# Altium footprint library SPMWH1228MD5WAQUVK.PcbLib: 3 footprints
Each footprint in its own frame and in the unit in brackets; x right, y up, seen from the top. Pads: shape width x height; smd on the part's side, far side on the other; paste and mask are expansions set on the pad; w line width, h text height; cw(c..) or ccw(c..) is an arc to the next point about the centre after c.
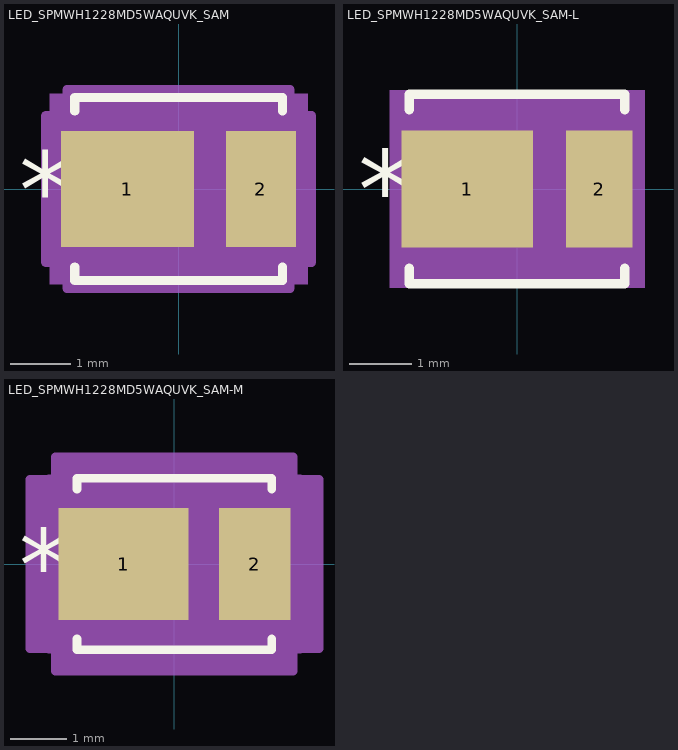
[diagram p0: the footprints below, top view; thin cyan lines are the x and y axes]

## LED_SPMWH1228MD5WAQUVK_SAM [mil]
pads (2):
  rect 87x76 smd paste+0 mask+0: 1(-33.5,0)
  rect 46x76 smd paste+0 mask+0: 2(54,0)
Top Overlay:
  lines w6: -68,-51.1 -68,-60 68,-60 68,-51.1 ; -68,51.1 -68,60 68,60 68,51.1
  text "*" at -104.5,-25 h50
Mechanical 5:
  region: 84.5,-62.5 -84.5,-62.5 -84.5,62.5 84.5,62.5
Mechanical 13:
  lines w1: -63,-27.5 -35.5,-55 ; -63,27.5 -35.5,55 ; -69,-38 -69,38 -63,38 -63,-38 -69,-38 ; -63,-55 63,-55 63,55 -63,55 -63,-55 ; 63,-38 63,38 69,38 69,-38 63,-38
  text "*" at -65.5,-25 h50
Mechanical 15:
  region: -73,-48 -87,-48 -87,48 -73,48 -73,65 73,65 73,48 87,48 87,-48 73,-48 73,-65 -73,-65
  lines w6: -87,-48 -87,48 -73,48 -73,65 73,65 73,48 87,48 87,-48 73,-48 73,-65 -73,-65 -73,-48 -87,-48
3D body "LED_SPMWH1228MD5WAQUVK_SAM.step": height 28.11, standoff 0, extent -69.02,-55 69.02,55

## LED_SPMWH1228MD5WAQUVK_SAM-L [mil]
pads (2):
  rect 83x74 smd paste+0 mask+0: 1(-31.5,0)
  rect 42x74 smd paste+0 mask+0: 2(52,0)
Top Overlay:
  lines w6: -68,-50.1 -68,-60 68,-60 68,-50.1 ; -68,50.1 -68,60 68,60 68,50.1
  text "*" at -100.5,-25 h50
Mechanical 5:
  region: 80.5,-62.5 -80.5,-62.5 -80.5,62.5 80.5,62.5
Mechanical 13:
  lines w1: -63,-27.5 -35.5,-55 ; -63,27.5 -35.5,55 ; -69,-38 -69,38 -63,38 -63,-38 -69,-38 ; -63,-55 63,-55 63,55 -63,55 -63,-55 ; 63,-38 63,38 69,38 69,-38 63,-38
  text "*" at -65.5,-25 h50
Mechanical 15:
  region: -67,-41 -77,-41 -77,41 -67,41 -67,59 67,59 67,41 77,41 77,-41 67,-41 67,-59 -67,-59
  lines w6: -77,-41 -77,41 -67,41 -67,59 67,59 67,41 77,41 77,-41 67,-41 67,-59 -67,-59 -67,-41 -77,-41
3D body "LED_SPMWH1228MD5WAQUVK_SAM.step": height 28.11, standoff 0, extent -69.02,-55 69.02,55

## LED_SPMWH1228MD5WAQUVK_SAM-M [mil]
pads (2):
  rect 91x78 smd paste+0 mask+0: 1(-35.5,0)
  rect 50x78 smd paste+0 mask+0: 2(56,0)
Top Overlay:
  lines w6: -68,-52.1 -68,-60 68,-60 68,-52.1 ; -68,52.1 -68,60 68,60 68,52.1
  text "*" at -108.5,-25 h50
Mechanical 5:
  region: 88.5,-62.5 -88.5,-62.5 -88.5,62.5 88.5,62.5
Mechanical 13:
  lines w1: -63,-27.5 -35.5,-55 ; -63,27.5 -35.5,55 ; -69,-38 -69,38 -63,38 -63,-38 -69,-38 ; -63,-55 63,-55 63,55 -63,55 -63,-55 ; 63,-38 63,38 69,38 69,-38 63,-38
  text "*" at -65.5,-25 h50
Mechanical 15:
  region: -83,-59 -101,-59 -101,59 -83,59 -83,75 83,75 83,59 101,59 101,-59 83,-59 83,-75 -83,-75
  lines w6: -101,-59 -101,59 -83,59 -83,75 83,75 83,59 101,59 101,-59 83,-59 83,-75 -83,-75 -83,-59 -101,-59
3D body "LED_SPMWH1228MD5WAQUVK_SAM.step": height 28.11, standoff 0, extent -69.02,-55 69.02,55